# EAGLE library part SD103ATW-7-F (library aq-diode)
DIODE ARRAY
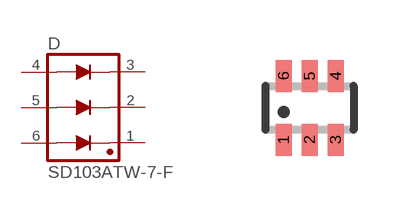
[diagram p17: symbol with the pads of SOT363; footprint SOT363]

Designator prefix D

## SD103ATW-7-F  [SOT363]
1  C1  pas
2  C2  pas
3  C3  pas
4  A3  pas
5  A2  pas
6  A1  pas

## Footprint SOT363 (pad centres in mm)
Small Outline Transistor; 6 leads
smd 0.4 x 0.8: 1 -0.65,-0.8; 2 0,-0.8; 3 0.65,-0.8; 4 0.65,0.8; 5 0,0.8; 6 -0.65,0.8